# Altium footprint library NODE_MCU_EXTEND_Project.PcbLib: 8 footprints
Each footprint in its own frame and in the unit in brackets; x right, y up, seen from the top. Pads: shape width x height; smd on the part's side, far side on the other; paste and mask are expansions set on the pad; w line width, h text height; cw(c..) or ccw(c..) is an arc to the next point about the centre after c.
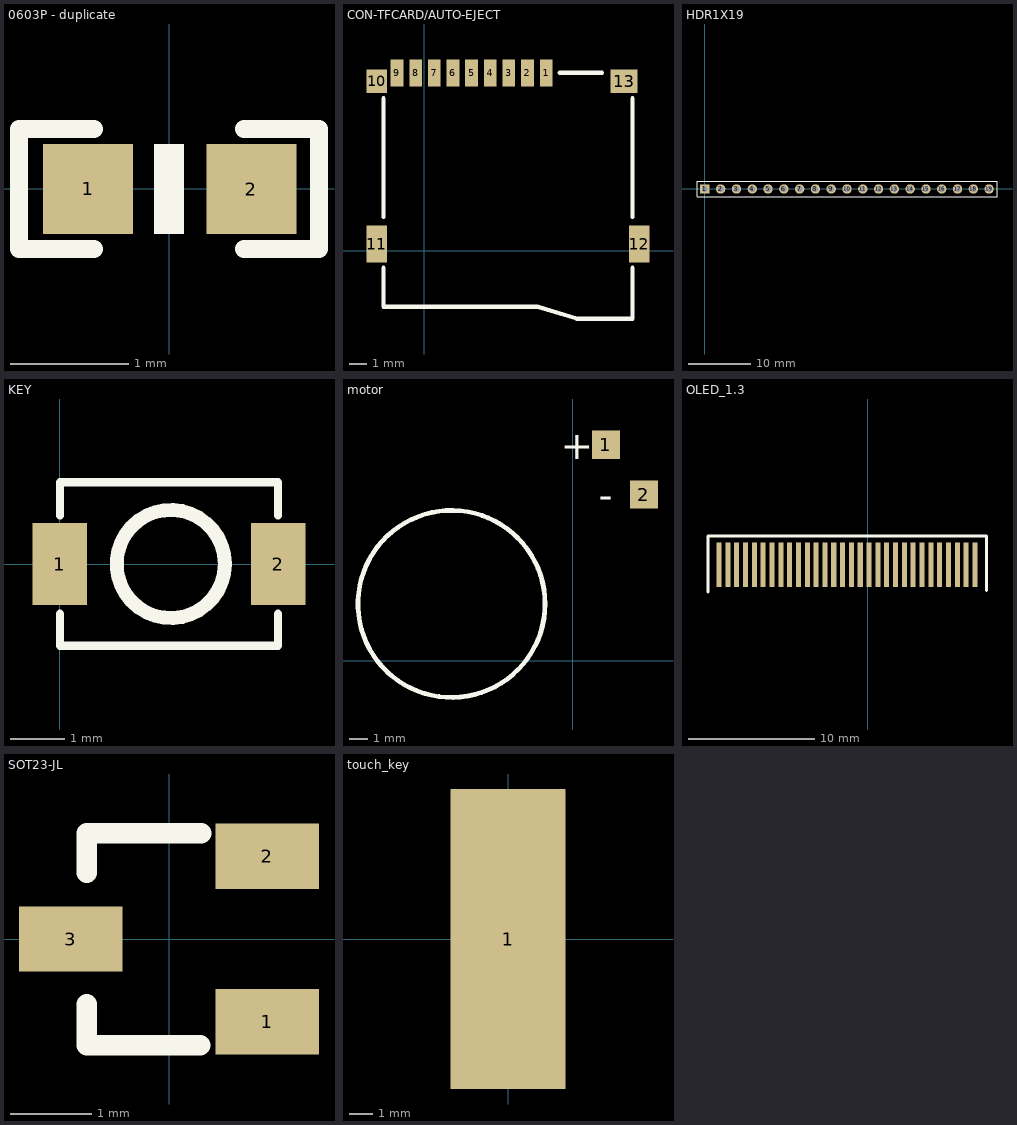
[diagram p0: the footprints below, top view; thin cyan lines are the x and y axes]

## 0603P - duplicate [mil]
pads (2):
  rect 30x30 smd: 1(-27,0) 2(27.5,-0.06)
Top Overlay:
  region: 5,-15.06 5,14.94 -5,14.94 -5,-15.06
  lines w6: -25,-20.06 -50,-20.06 -50,19.94 -25,19.94 ; 25,-20.06 50,-20.06 50,19.94 25,19.94

## CON-TFCARD/AUTO-EJECT [mm]
pads (13):
  rect 0.75x1.6 smd: 1(7.2,10.5) 2(6.1,10.5) 3(5,10.5) 4(3.9,10.5) 5(2.8,10.5) 6(1.7,10.5) 7(0.6,10.5) 8(-0.5,10.5) 9(-1.6,10.5)
  rect 1.2x1.4 smd: 10(-2.8,10)
  rect 1.2x2.2 smd: 11(-2.8,0.4) 12(12.7,0.4)
  rect 1.6x1.4 smd: 13(11.8,10)
Top Overlay:
  lines w0.254: -2.4,-1 -2.4,-3.3 6.7,-3.3 9,-4 12.3,-4 12.3,-1 ; -2.4,2 -2.4,9 ; 8,10.5 10.5,10.5 ; 12.3,2 12.3,9

## HDR1X19 [mm]
pads (19):
  rect 1.5x1.5 hole 0.9: 1(0,0)
  round 1.5 hole 0.9: 2(2.54,0) 3(5.08,0) 4(7.62,0) 5(10.16,0) 6(12.7,0) 7(15.24,0) 8(17.78,0) 9(20.32,0) 10(22.86,0) 11(25.4,0) 12(27.94,0) 13(30.48,0) 14(33.02,0) 15(35.56,0) 16(38.1,0) 17(40.64,0) 18(43.18,0) 19(45.72,0)
Top Overlay:
  lines w0.2: 0.508,1.27 46.99,1.27 46.99,-1.27 -1.27,-1.27 -1.27,1.27 0.635,1.27

## KEY [mm]
pads (2):
  rect 1x1.5 smd: 1(0,0) 2(4,0)
Top Overlay:
  circle w0.254: c2.032,0 r0.992
  lines w0.152: 0,-0.913 0,-1.5 4,-1.5 4,-0.913 ; 0,0.889 0,1.5 4,1.5 4,0.889

## motor [mm]
pads (2):
  rect 1.5x1.5 smd: 1(1.778,11.557) 2(3.81,8.89)
Top Overlay:
  circle w0.254: c-6.477,3.048 r5
  text "+" at -0.635,10.795 h1.52
  text "-" at 1.397,8.128 h1.52

## OLED_1.3 [mm]
pads (30):
  rect 0.4x3.5 smd: 1(-11.811,-17.653) 2(-11.111,-17.653) 3(-10.411,-17.653) 4(-9.711,-17.653) 5(-9.011,-17.653) 6(-8.311,-17.653) 7(-7.611,-17.653) 8(-6.911,-17.653) 9(-6.211,-17.653) 10(-5.511,-17.653) 11(-4.811,-17.653) 12(-4.111,-17.653) 13(-3.411,-17.653) 14(-2.711,-17.653) 15(-2.011,-17.653) 16(-1.311,-17.653) 17(-0.611,-17.653) 18(0.089,-17.653) 19(0.789,-17.653) 20(1.489,-17.653) 21(2.189,-17.653) 22(2.889,-17.653) 23(3.589,-17.653) 24(4.289,-17.653) 25(4.989,-17.653) 26(5.689,-17.653) 27(6.389,-17.653) 28(7.089,-17.653) 29(7.789,-17.653) 30(8.489,-17.653)
Top Overlay:
  lines w0.254: -12.7,-19.812 -12.7,-15.367 9.398,-15.367 9.398,-19.685

## SOT23-JL [mm]
pads (3):
  rect 1.27x0.8 smd: 1(1.205,-1.015) 2(1.205,1.015) 3(-1.205,0)
Top Overlay:
  lines w0.254: -1.009,-0.803 -1.009,-1.303 0.383,-1.303 ; -1.009,0.811 -1.009,1.297 0.392,1.297

## touch_key [mm]
pads (1):
  rect 5x13 smd: 1(0,0)